# Altium schematic symbol library Guitar_Multi_Effect_Interface_lib.SchLib: 36 symbols
Pins are listed as number, name and electrical type; pins without a type are passive.

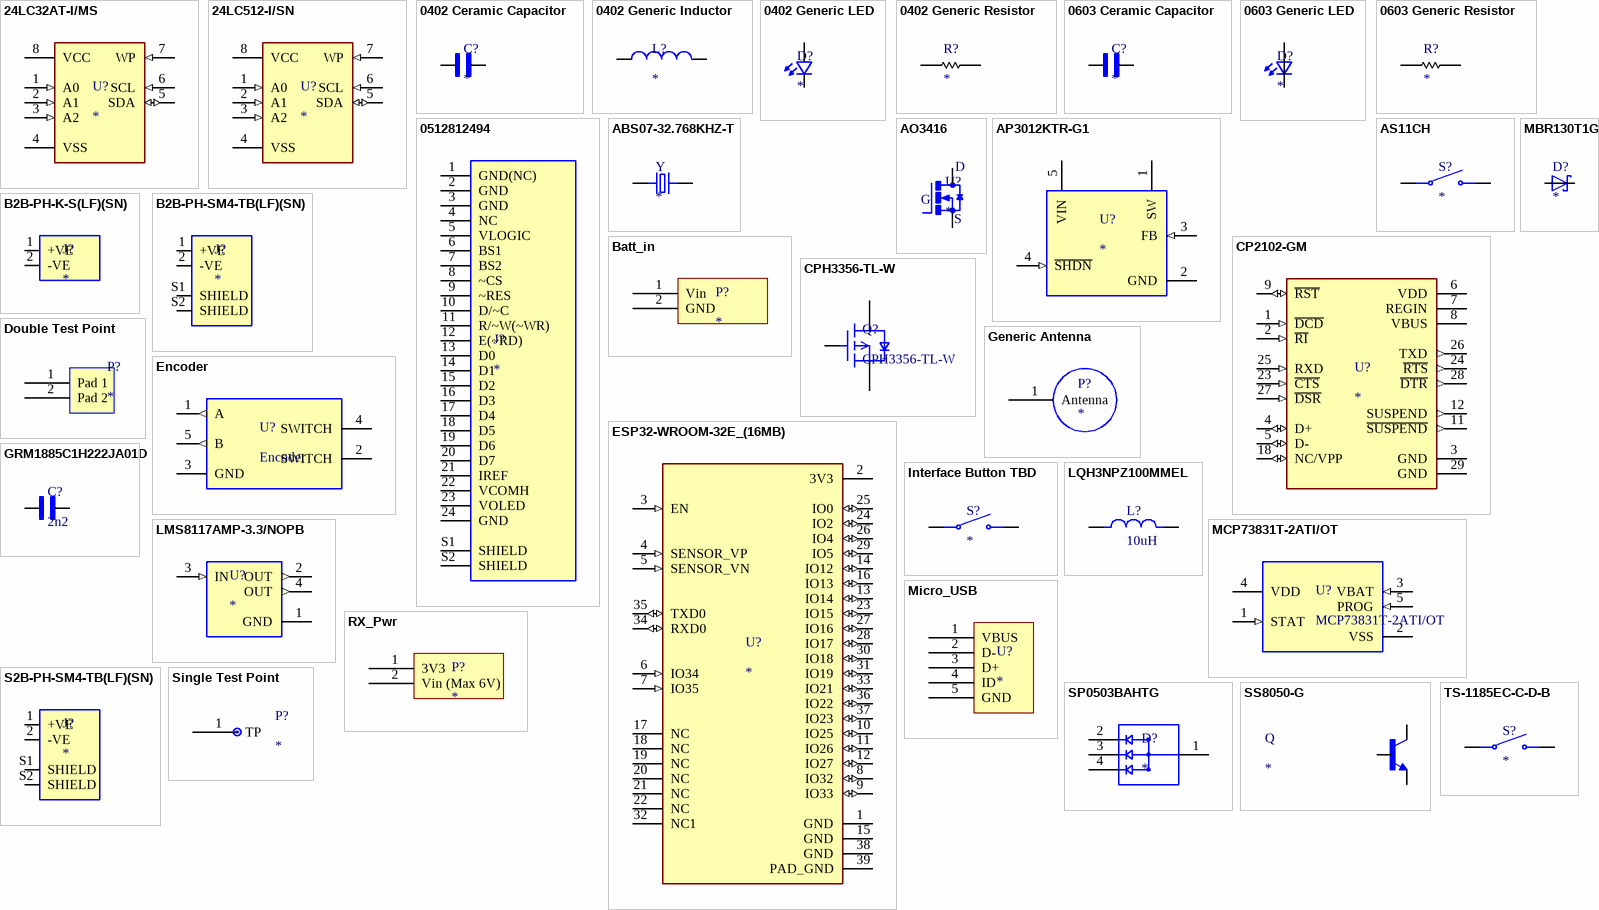
[diagram p0: symbols 24LC32AT-I/MS to TS-1185EC-C-D-B]

## 24LC32AT-I/MS
designator U?
32K I2C Serial EEPROM
footprint 24LC32AT-I/MS
pins: 1 A0 (in), 2 A1 (in), 3 A2 (in), 4 VSS, 5 SDA (io), 6 SCL (in), 7 WP (in), 8 VCC (power)

## 24LC512-I/SN
designator U?
512K I2C Serial EEPROM
footprint 24LC512-I/SN
pins: 1 A0 (in), 2 A1 (in), 3 A2 (in), 4 VSS, 5 SDA (io), 6 SCL (in), 7 WP (in), 8 VCC (power)

## 0402 Ceramic Capacitor
designator C?
Generic 0402 Ceramic Capacitor; MP: AC0402FR-071ML; MF: Yageo; Package: 1005 Yageo; SnapEDA_Link: https://www.snapeda.com/parts/AC0402FR-071ML/Yageo/view-part/940461/?ref=snap; Value: *; Mouser-Purchase-URL: https://snapeda.com/shop?store=Mouser&id=940461; DigiKey-Purchase-URL: https://snapeda.com/shop?store=DigiKey&id=940461
footprint 0402 Capacitor Generic
pins: 1, 2

## 0402 Generic Inductor
designator L?
0402 Generic Inductor; Value: *
footprint 0402 Inductor Generic
pins: 1, 2

## 0402 Generic LED
designator D?
0402 Generic LED; Value: *
footprint 0402 LED Generic
pins: 1 K2, 2 A2

## 0402 Generic Resistor
designator R?
Generic 0402 Resistor
footprint 0402 Resistor Generic
pins: 1, 2

## 0603 Ceramic Capacitor
designator C?
Generic 0603 Ceramic Capacitor; MP: AC0402FR-071ML; MF: Yageo; Package: 1005 Yageo; SnapEDA_Link: https://www.snapeda.com/parts/AC0402FR-071ML/Yageo/view-part/940461/?ref=snap; Value: *; Mouser-Purchase-URL: https://snapeda.com/shop?store=Mouser&id=940461; DigiKey-Purchase-URL: https://snapeda.com/shop?store=DigiKey&id=940461
footprint CHIP_0603 (Chip Capacitor, 2-Leads, Body 1.60x0.80mm, IPC Medium Density)
pins: 1, 2

## 0603 Generic LED
designator D?
0603 Generic LED; Value: *
footprint 0603 LED Generic
pins: 1 K2, 2 A2

## 0603 Generic Resistor
designator R?
Generic 0603 Resistor
footprint CHIP_R_0603 (Chip Resistor, 2-Leads, Body 1.60x0.80mm, IPC Medium Density)
pins: 1, 2

## 0512812494
designator J?
24 Position FFC, FPC Connector Contacts, Top and Bottom 0.020" (0.50mm) Surface Mount, Right Angle; MP: 2-84952-4; MF: TE Connectivity; Package: None; EU_RoHS_Compliance: Compliant; Availability: Unavailable; Price: None; Value: *; SnapEDA_Link: https://www.snapeda.com/parts/2-84952-4/TE%20Connectivity/view-part/1466414/?ref=snap
footprint Top_Connector_Config_0512812494 (24 Position FFC, FPC Connector Contacts, Top and Bottom 0.020" (0.50mm) Surface Mount, Right Angle)
pins: 1 GND(NC), 2 GND, 3 GND, 4 NC, 5 VLOGIC, 6 BS1, 7 BS2, 8 ~CS, 9 ~RES, 10 D/~C, 11 R/~W(~WR), 12 E(~RD), 13 D0, 14 D1, 15 D2, 16 D3, 17 D4, 18 D5, 19 D6, 20 D7, 21 IREF, 22 VCOMH, 23 VOLED, 24 GND, S1 SHIELD, S2 SHIELD

## ABS07-32.768KHZ-T
designator Y
32.768kHz Â±20ppm Crystal 12.5pF 70 kOhms 2-SMD, No Lead; MF: Abracon LLC; MP: ABS07-32.768KHZ; Price: None; Value: *; Package: SMD-2 Abracon; Availability: Unavailable; SnapEDA_Link: https://www.snapeda.com/parts/ABS07-32.768KHZ/Abracon%20LLC/view-part/448682/?ref=snap
footprint XTAL_ABS07-32.768KHZ-T
pins: 1, 2

## AO3416
designator U?
N-Channel 20V 6.5A _Ta_ 1.4W _Ta_ Surface Mount SOT-23-3L; MF: Alpha &; MP: AO3416; Digi-Key_Part_Number: 785-1011-1-ND; Package: SOT-23 Alpha &amp; Omega Semiconductor; Value: *; SnapEDA_Link: https://www.snapeda.com/parts/AO3416/Alpha%20%26%20Omega%20Semiconductor%20Inc./view-part/555673/?ref=snap; Digi-Key_Purchase_URL: https://www.digikey.com/product-detail/en/alpha-omega-semiconductor-inc/AO3416/785-1011-1-ND/1855953?utm_source=snapeda&utm_medium=aggregator&utm_campaign=symbol
footprint SOT23-3
pins: 1 G, 2 S, 3 D

## AP3012KTR-G1
designator U?
Boost Switching Regulator IC Positive Adjustable 1.25V 1 Output 500mA _Switch_ SC-74A, SOT-753; MF: Diodes Inc.; MP: AP3012KTR-G1; Package: SOT-23-5 Diodes Inc.; Value: *; Availability: Unavailable; SnapEDA_Link: https://www.snapeda.com/parts/AP3012KTR-G1/Diodes%20Inc./view-part/587030/?ref=snap; Price: None
footprint SOT-23
pins: 1 SW, 2 GND (power), 3 FB (in), 4 ~{SHDN} (in), 5 VIN (power)

## AS11CH
designator S?
SWITCH SLIDE SPST 0.4VA 28V
footprint AS11CH
pins: 1 COM, 1, 3, 3 NO

## B2B-PH-K-S(LF)(SN)
designator J?
Connector Header Through Hole 2 position 0.079" (2.00mm); MP: S2B-PH-SM4-TB_LF__SN_; MF: JST Sales; SnapEDA_Link: https://www.snapeda.com/parts/S2B-PH-SM4-TB%28LF%29%28SN%29/JST%20Sales%20America%20Inc./view-part/46879/?ref=snap; Package: None; Digi-Key_Part_Number: 455-1749-1-ND; Digi-Key_Purchase_URL: https://www.digikey.com.au/product-detail/en/jst-sales-america-inc/S2B-PH-SM4-TB_LF__SN_/455-1749-1-ND/926846?utm_source=snapeda&utm_medium=aggregator&utm_campaign=symbol; Value: *
footprint JST_B2B-PH-K-S(LF)(SN)
pins: 1 +VE, 2 -VE

## B2B-PH-SM4-TB(LF)(SN)
designator J?
Connector Header Surface Mount 2 position 0.079" (2.00mm); MP: S2B-PH-SM4-TB_LF__SN_; MF: JST Sales; SnapEDA_Link: https://www.snapeda.com/parts/S2B-PH-SM4-TB%28LF%29%28SN%29/JST%20Sales%20America%20Inc./view-part/46879/?ref=snap; Package: None; Digi-Key_Part_Number: 455-1749-1-ND; Digi-Key_Purchase_URL: https://www.digikey.com.au/product-detail/en/jst-sales-america-inc/S2B-PH-SM4-TB_LF__SN_/455-1749-1-ND/926846?utm_source=snapeda&utm_medium=aggregator&utm_campaign=symbol; Value: *
footprint JST_B2B-PH-SM4-TB(LF)(SN)
pins: 1 +VE, 2 -VE, S1 SHIELD, S2 SHIELD

## Batt_in
designator P?
footprint 2 Solder Pads
pins: 1 Vin, 2 GND

## CP2102-GM
designator U?
USB Bridge, USB to UART USB 2.0 UART Interface 28-QFN _5x5_; MF: Silicon Labs; MP: CP2102-GM; Package: QFN-28 Silicon Labs; Value: *; Price: None; Availability: Unavailable; SnapEDA_Link: https://www.snapeda.com/parts/CP2102-GM/Silicon%20Labs/view-part/135876/?ref=snap
footprint QFN50P500X500X100-29N
pins: 1 ~{DCD} (in), 2 ~{RI} (in), 3 GND (power), 4 D+ (io), 5 D- (io), 6 VDD (power), 7 REGIN (power), 8 VBUS (power), 9 ~{RST} (io), 11 ~{SUSPEND} (out), 12 SUSPEND (out), 18 NC/VPP (io), 23 ~{CTS} (in), 24 ~{RTS} (out), 25 RXD (in), 26 TXD (out), 27 ~{DSR} (in), 28 ~{DTR} (out), 29 GND (power)

## CPH3356-TL-W
designator Q?
P-Channel 20 V 2.5A (Ta) 1W (Ta) Surface Mount 3-CPH
footprint SOT23-3
pins: 1 G, 2 S, 3 D

## Double Test Point
designator P?
footprint 2 Test Points
pins: 1 Pad 1, 2 Pad 2

## Encoder
designator U?
Encoder solder connections for PEC11R-4215F-S0024; MF: Diodes Inc.; MP: AP3012KTR-G1; Package: SOT-23-5 Diodes Inc.; Value: *; Availability: Unavailable; SnapEDA_Link: https://www.snapeda.com/parts/AP3012KTR-G1/Diodes%20Inc./view-part/587030/?ref=snap; Price: None
footprint Encoder Solder Pads
pins: 1 A (out), 2 SWITCH, 3 GND (power), 4 SWITCH, 5 B (out)

## ESP32-WROOM-32E_(16MB)
designator U?
Bluetooth, WiFi 802.11b/g/n, Bluetooth v4.2 +EDR, Class 1, 2 and 3 Transceiver Module 2.4GHz ~ 2.5GHz Integrated, Trace Surface Mount; MP: ESP32-WROOM-32E (16MB); MF: Espressif Systems; Value: *; SnapEDA_Link: https://www.snapeda.com/parts/ESP32-WROOM-32E%20(16MB)/Espressif%20Systems/view-part/4792564/?ref=snap; Check_prices: https://www.snapeda.com/parts/ESP32-WROOM-32E%20(16MB)/Espressif%20Systems/view-part/4792564/?ref=eda; Availability: Unavailable; Price: None; Package: None
footprint MODULE_ESP32-WROOM-32E
pins: 1 GND (power), 2 3V3 (power), 3 EN (in), 4 SENSOR_VP (in), 5 SENSOR_VN (in), 6 IO34 (in), 7 IO35 (in), 8 IO32 (io), 9 IO33 (io), 10 IO25 (io), 11 IO26 (io), 12 IO27 (io), 13 IO14 (io), 14 IO12 (io), 15 GND (power), 16 IO13 (io), 17 NC, 18 NC, 19 NC, 20 NC, 21 NC, 22 NC, 23 IO15 (io), 24 IO2 (io), 25 IO0 (io), 26 IO4 (io), 27 IO16 (io), 28 IO17 (io), 29 IO5 (io), 30 IO18 (io), 31 IO19 (io), 32 NC1, 33 IO21 (io), 34 RXD0 (io), 35 TXD0 (io), 36 IO22 (io), 37 IO23 (io), 38 GND (power), 39 PAD_GND (power)

## Generic Antenna
designator P?
footprint Antenna pad
pins: 1 Antenna

## GRM1885C1H222JA01D
designator C?, comment 2n2
2200PF 50V C0G/NP0 0603
footprint CHIP_0603 (Chip Capacitor, 2-Leads, Body 1.60x0.80mm, IPC Medium Density)
pins: 1, 2

## Interface Button TBD
designator S?
TBD
footprint Interface_Button_Multi_Footprint
pins: 1 COM, 2 COM, 3 NO, 4 NO

## LMS8117AMP-3.3/NOPB
designator U?
Fixed 3.3V LDO 1A 15V input SOT-223; MF: Texas Instruments; MP: LMS8117AMP-3.3/NOPB; SnapEDA_Link: https://www.snapeda.com/parts/LMS8117AMP-3.3/NOPB/Texas%20Instruments/view-part/104396/?ref=snap; Price: None; Check_prices: https://www.snapeda.com/parts/LMS8117AMP-3.3/NOPB/Texas%20Instruments/view-part/104396/?ref=eda; Purchase-URL: https://pricing.snapeda.com/search/part/LMS8117AMP-3.3/NOPB/?ref=eda; Value: *; Package: SOT-223-4 Texas Instruments; Availability: Warning
footprint SOT230P700X180-4N
pins: 1 GND (power), 2 OUT (out), 3 IN (in), 4 OUT (out)

## LQH3NPZ100MMEL
designator L?, comment 10uH
Inductor with Inductance: 10uH Tol. +/-20%, Package: 1212 _3030_; MP: LQH3NPZ100MMEL; MF: Murata; Package: 1212 Murata; Digi-Key_Purchase_URL: https://www.digikey.com/product-detail/en/murata-electronics/LQH3NPZ100MMEL/490-15968-1-ND/6800633?utm_source=snapeda&utm_medium=aggregator&utm_campaign=symbol; Digi-Key_Part_Number: 490-15968-1-ND; Value: *; SnapEDA_Link: https://www.snapeda.com/parts/LQH3NPZ100MMEL/Murata/view-part/4547346/?ref=snap
footprint IND_LQH3NPZ100MMEL
pins: 1, 2

## MBR130T1G
designator D?
Diode Schottky 30 V 1A Surface Mount SOD-123; MP: MBR0530; MF: ON Semiconductor; Arrow_Electronics-Purchase-URL: https://snapeda.com/shop?store=Arrow+Electronics&id=2580921; Price: None; Package: SOD-123 Diodes Inc.; Value: *; DigiKey-Purchase-URL: https://snapeda.com/shop?store=DigiKey&id=2580921; Availability: Good; Mouser-Purchase-URL: https://snapeda.com/shop?store=Mouser&id=2580921; SnapEDA_Link: https://www.snapeda.com/parts/MBR0530/ON%20Semiconductor/view-part/2580921/?ref=snap
footprint SOD-123-2
pins: A, C

## MCP73831T-2ATI/OT
designator U?
Charger IC Lithium Ion/Polymer SOT-23-5; MF: Microchip; Availability: Unavailable; SnapEDA_Link: https://www.snapeda.com/parts/MCP73831T-2ATI/OT/Microchip/view-part/51423/?ref=snap; Price: None; MP: MCP73831T-2ATI/OT; Arrow_Americas-Purchase-URL: https://snapeda.com/shop?store=Arrow+Americas&id=51423; Package: SOT-23 Microchip; DigiKey-Purchase-URL: https://snapeda.com/shop?store=DigiKey&id=51423; Value: *; Mouser-Purchase-URL: https://snapeda.com/shop?store=Mouser&id=51423
footprint SOT95P280X145-5N
pins: 1 STAT (in), 2 VSS (power), 3 VBAT (in), 4 VDD (power), 5 PROG (in)

## Micro_USB
designator U?
XKB Connectivity U254-051T-4BH83-F1S
footprint U254-051T-4BH83-F1S
pins: 1 VBUS, 2 D-, 3 D+, 4 ID, 5 GND

## RX_Pwr
designator P?
footprint 2 Solder Pads
pins: 1 3V3, 2 Vin (Max 6V)

## S2B-PH-SM4-TB(LF)(SN)
designator J?
Connector Header Surface Mount, Right Angle 2 position 0.079 _2.00mm_; MP: S2B-PH-SM4-TB_LF__SN_; MF: JST Sales; SnapEDA_Link: https://www.snapeda.com/parts/S2B-PH-SM4-TB%28LF%29%28SN%29/JST%20Sales%20America%20Inc./view-part/46879/?ref=snap; Package: None; Digi-Key_Part_Number: 455-1749-1-ND; Digi-Key_Purchase_URL: https://www.digikey.com.au/product-detail/en/jst-sales-america-inc/S2B-PH-SM4-TB_LF__SN_/455-1749-1-ND/926846?utm_source=snapeda&utm_medium=aggregator&utm_campaign=symbol; Value: *
footprint JST_S2B-PH-SM4-TB(LF)(SN)
pins: 1 +VE, 2 -VE, S1 SHIELD, S2 SHIELD

## Single Test Point
designator P?
footprint 1 Solder Pad
pins: 1 TP

## SP0503BAHTG
designator D?
8.5V Clamp Ipp Tvs Diode Surface Mount SOT-143-4; MP: SP0503BAHTG; MF: Littelfuse Inc.; Package: SOT-143 Littelfuse; SnapEDA_Link: https://www.snapeda.com/parts/SP0503BAHTG/Littelfuse%20Inc./view-part/214427/?ref=snap; Digi-Key_Purchase_URL: https://www.digikey.com/product-detail/en/littelfuse-inc/SP0503BAHTG/F2715CT-ND/1154322?utm_source=snapeda&utm_medium=aggregator&utm_campaign=symbol; Value: *; Digi-Key_Part_Number: F2715CT-ND
footprint SP0503BAHTG
pins: 1, 2, 3, 4

## SS8050-G
designator Q
NPN TRANSISTOR 1.5A 40V SOT-23 R
footprint SS8050-G
pins: 1 B, 2 E, 3 C

## TS-1185EC-C-D-B
designator S?
SMD Tactile Switche - 3mm 2mm 50mA 3.65mm SPST 12V
footprint TS-1185EC-C-D-B
pins: 1 COM, 2 COM, 3 NO, 4 NO